# Altium footprint library IC-Embedded-Processors-Controllers.PcbLib: 2 footprints
Each footprint in its own frame and in the unit in brackets; x right, y up, seen from the top. Pads: shape width x height; smd on the part's side, far side on the other; paste and mask are expansions set on the pad; w line width, h text height; cw(c..) or ccw(c..) is an arc to the next point about the centre after c.
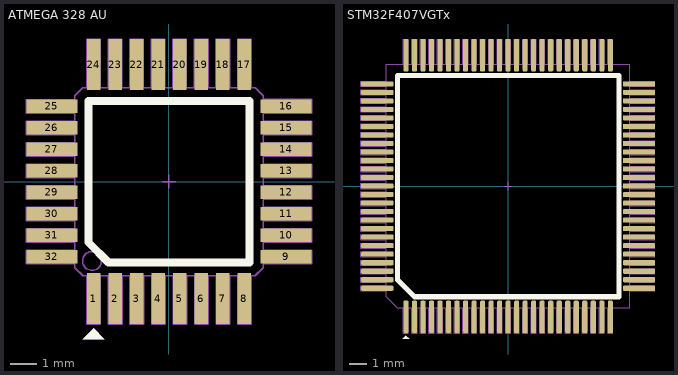
[diagram p0: the footprints below, top view; thin cyan lines are the x and y axes]

## ATMEGA 328 AU [mm] "IC MCU 8BIT 32KB FLASH 32TQFP"
height 1.2
pads (32):
  rect 0.5x1.9 smd mask+0.05: 1(-2.8,-4.35) 2(-2,-4.35) 3(-1.2,-4.35) 4(-0.4,-4.35) 5(0.4,-4.35) 6(1.2,-4.35) 7(2,-4.35) 8(2.8,-4.35) 17(2.8,4.35) 18(2,4.35) 19(1.2,4.35) 20(0.4,4.35) 21(-0.4,4.35) 22(-1.2,4.35) 23(-2,4.35) 24(-2.8,4.35)
  rect 1.9x0.5 smd mask+0.05: 9(4.35,-2.8) 10(4.35,-2) 11(4.35,-1.2) 12(4.35,-0.4) 13(4.35,0.4) 14(4.35,1.2) 15(4.35,2) 16(4.35,2.8) 25(-4.35,2.8) 26(-4.35,2) 27(-4.35,1.2) 28(-4.35,0.4) 29(-4.35,-0.4) 30(-4.35,-1.2) 31(-4.35,-2) 32(-4.35,-2.8)
Top Overlay:
  region: -2.8,-5.45 -3.2,-5.85 -2.4,-5.85
  lines w0.3: -3,-2.251 -2.251,-3 ; -3,-2.251 -2.251,-3 ; -3,-2.251 -3,3 3,3 3,-3 -2.251,-3
Top HCB:
  drawing of 179 lines, arcs and shapes, not listed
  text "17" at 1.319,2.552 h1
  text "8" at 1.539,-3.266 h1
  text "1" at -1.868,-3.272 h1
  text "16" at 3.183,1.323 h1
  text "9" at 3.183,-1.956 h1
  text "25" at -3.183,2.216 h1
  text "32" at -3.183,-1.293 h1
  text "24" at -2.214,2.552 h1
3D body "ATMEGA328-AUR.stp": height 1.2, standoff 0, extent -4.5,-4.6 4.5,4.4

## STM32F407VGTx [mm]
height 1.2
pads (100):
  rrect50% 0.3x1.9 smd mask+0.05: 1(-6,-7.68) 2(-5.5,-7.68) 3(-5,-7.68) 4(-4.5,-7.68) 5(-4,-7.68) 6(-3.5,-7.68) 7(-3,-7.68) 8(-2.5,-7.68) 9(-2,-7.68) 10(-1.5,-7.68) 11(-1,-7.68) 12(-0.5,-7.68) 13(0,-7.68) 14(0.5,-7.68) 15(1,-7.68) 16(1.5,-7.68) 17(2,-7.68) 18(2.5,-7.68) 19(3,-7.68) 20(3.5,-7.68) 21(4,-7.68) 22(4.5,-7.68) 23(5,-7.68) 24(5.5,-7.68) 25(6,-7.68) 51(6,7.68) 52(5.5,7.68) 53(5,7.68) 54(4.5,7.68) 55(4,7.68) 56(3.5,7.68) 57(3,7.68) 58(2.5,7.68) 59(2,7.68) 60(1.5,7.68) 61(1,7.68) 62(0.5,7.68) 63(0,7.68) 64(-0.5,7.68) 65(-1,7.68) 66(-1.5,7.68) 67(-2,7.68) 68(-2.5,7.68) 69(-3,7.68) 70(-3.5,7.68) 71(-4,7.68) 72(-4.5,7.68) 73(-5,7.68) 74(-5.5,7.68) 75(-6,7.68)
  rrect50% 1.9x0.3 smd mask+0.05: 26(7.68,-6) 27(7.68,-5.5) 28(7.68,-5) 29(7.68,-4.5) 30(7.68,-4) 31(7.68,-3.5) 32(7.68,-3) 33(7.68,-2.5) 34(7.68,-2) 35(7.68,-1.5) 36(7.68,-1) 37(7.68,-0.5) 38(7.68,0) 39(7.68,0.5) 40(7.68,1) 41(7.68,1.5) 42(7.68,2) 43(7.68,2.5) 44(7.68,3) 45(7.68,3.5) 46(7.68,4) 47(7.68,4.5) 48(7.68,5) 49(7.68,5.5) 50(7.68,6) 76(-7.68,6) 77(-7.68,5.5) 78(-7.68,5) 79(-7.68,4.5) 80(-7.68,4) 81(-7.68,3.5) 82(-7.68,3) 83(-7.68,2.5) 84(-7.68,2) 85(-7.68,1.5) 86(-7.68,1) 87(-7.68,0.5) 88(-7.68,0) 89(-7.68,-0.5) 90(-7.68,-1) 91(-7.68,-1.5) 92(-7.68,-2) 93(-7.68,-2.5) 94(-7.68,-3) 95(-7.68,-3.5) 96(-7.68,-4) 97(-7.68,-4.5) 98(-7.68,-5) 99(-7.68,-5.5) 100(-7.68,-6)
Top Overlay:
  region: -6,-8.78 -6.2,-8.98 -5.8,-8.98
  lines w0.3: -6.5,-5.5 -5.5,-6.5 6.5,-6.5 6.5,6.5 -6.5,6.5 -6.5,-5.5
Top HCB:
  drawing of 321 lines, arcs and shapes, not listed
  text "100" at -6.28,-4.037 h1.2
  text "50" at 6.23,4.302 h1.2
  text "26" at 6.23,-5.406 h1.2
  text "76" at -6.28,5.399 h1.2
  text "51" at 4.373,5.472 h1.2
  text "25" at 4.289,-6.228 h1.2
  text "75" at -5.401,5.478 h1.2
  text "1" at -5.292,-6.148 h1.2
3D body "User Library-LQFP100_Grid_0_5.STEP": height 1.6, standoff 0, extent -8,-7.999 8,8.001